# Altium footprint library ConvertisseurDeNiveauxI2C.PcbLib: 1 footprints
Each footprint in its own frame and in the unit in brackets; x right, y up, seen from the top. Pads: shape width x height; smd on the part's side, far side on the other; paste and mask are expansions set on the pad; w line width, h text height; cw(c..) or ccw(c..) is an arc to the next point about the centre after c.
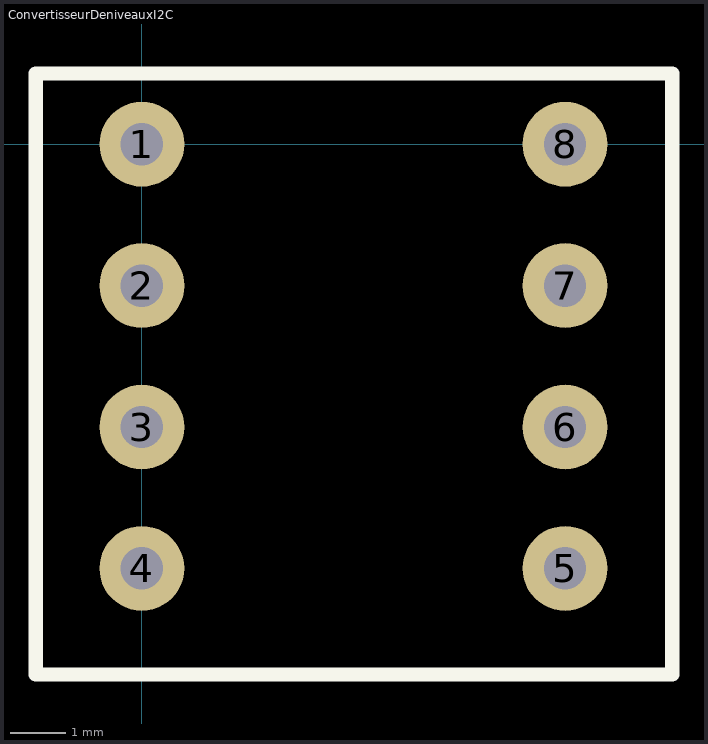
[diagram p0: the footprint, top view; thin cyan lines are the x and y axes]

## ConvertisseurDeniveauxI2C [mil]
pads (8):
  round 60 hole 30: 1(0,0) 2(0,-100) 3(0,-200) 4(0,-300) 5(299.21,-300) 6(299.21,-200) 7(299.21,-100) 8(299.21,0)
Top Overlay:
  lines w10: -75,-375 375,-375 375,50 -75,50 -75,-375